# Altium footprint library connectors.PcbLib: 30 footprints (part 2 of 2)
Each footprint in its own frame and in the unit in brackets; x right, y up, seen from the top. Pads: shape width x height; smd on the part's side, far side on the other; paste and mask are expansions set on the pad; w line width, h text height; cw(c..) or ccw(c..) is an arc to the next point about the centre after c.
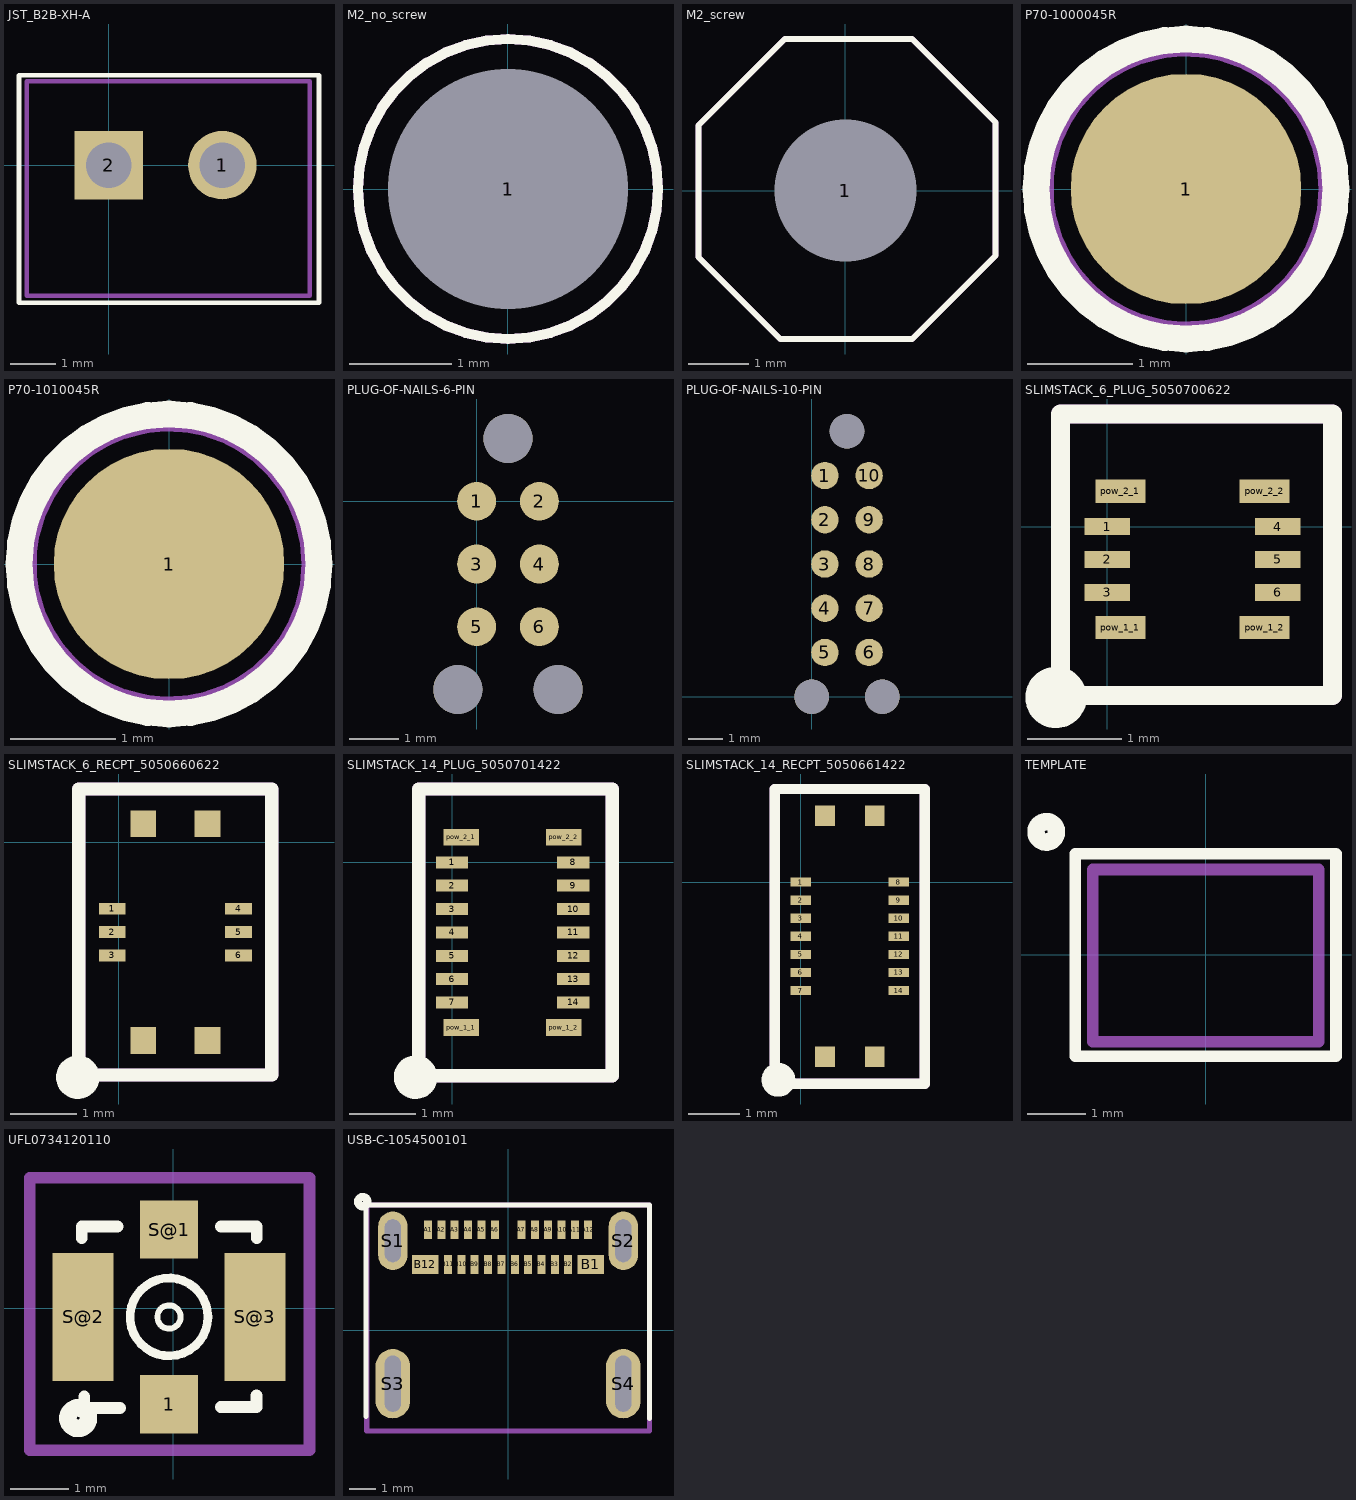
[diagram p1: the footprints below, top view; thin cyan lines are the x and y axes]

## JST_B2B-XH-A [mm] "JST LiPo Connector"
pads (2):
  round 1.508 hole 1: 1(2.5,0)
  rect 1.508x1.508 hole 1: 2(0,0)
Top Overlay:
  lines w0.1: -1.975,-3.025 -1.975,1.975 4.625,1.975 4.625,-3.025 -1.975,-3.025
Top Assembly:
  lines w0.1: -1.8,-2.875 -1.8,1.85 4.425,1.85 4.425,-2.875 -1.8,-2.875
  text ".Designator" at -0.6,-0.3 h0.89
3D body "User Library-PCB HEADER (JST BxB-PH-K-S (VERTICAL)).step": height 6, standoff -1.91, extent -1.7,-2.75 4.3,1.75

## M2_no_screw [mm] "Screw M2"
pads (1):
  round 1.508 hole 2.34: 1(0,0)
Top Overlay:
  circle w0.1: c0,0 r1.463
Top Assembly:
  circle w0.1: c0,0 r1.463
  text ".Designator" at -1.3,-0.225 h0.89

## M2_screw [mm] "Screw M2"
pads (1):
  round 1.508 hole 2.34 mask+1.5: 1(0,0)
Top Overlay:
  lines w0.1: -2.425,-1.1 -1.075,-2.45 1.1,-2.45 2.475,-1.075 2.475,1.125 1.1,2.5 -1,2.5 -2.425,1.075 -2.425,-1.1
Top Assembly:
  lines w0.1: -2.425,-1.1 -1.075,-2.45 1.1,-2.45 2.475,-1.075 2.475,1.125 1.1,2.5 -1,2.5 -2.425,1.075 -2.425,-1.1
  text ".Designator" at -1.325,-0.25 h0.89

## P70-1000045R [mm] "CONTACT SPRING LOADED SMD GOLD"
pads (1):
  round 2.2 smd: 1(0,0)
Top Overlay:
  circle w0.254: c0,0 r1.432
Top Assembly:
  circle w0.254: c0,0 r1.393
  text ".Designator" at -0.9,-0.4 h0.89
3D body "p70-1000045.stp": height 3.5, standoff 0, extent -1,-1 1,1

## P70-1010045R [mm] "CONTACT SPRING LOADED SMD GOLD"
pads (1):
  round 2.2 smd: 1(0,0)
Top Overlay:
  circle w0.254: c0,0 r1.432
Top Assembly:
  circle w0.254: c0,0 r1.393
  text ".Designator" at -0.9,-0.4 h0.89
3D body "p70-1010045.stp": height 5, standoff 0, extent -1,-1 1,1

## PLUG-OF-NAILS-6-PIN [mil]
pads (9):
  round 30.98 smd paste-39.37: 1(0,0) 2(50,0) 3(0,-50) 4(50,-50) 5(0,-100) 6(50,-100)
  round 39.02 hole 39.02 unplated: ""(-15,-150) ""(25,50) ""(65,-150)

## PLUG-OF-NAILS-10-PIN [mm]
pads (13):
  round 0.787 smd paste-1: 1(0.38,6.35) 2(0.38,5.08) 3(0.38,3.81) 4(0.38,2.54) 5(0.38,1.27) 6(1.65,1.27) 7(1.65,2.54) 8(1.65,3.81) 9(1.65,5.08) 10(1.65,6.35)
  round 0.991 hole 0.991 unplated: ""(0,0) ""(1.015,7.62) ""(2.03,0)

## SLIMSTACK_6_PLUG_5050700622 [mm] "CONN PLUG 6 POS SMD GOLD"
pads (10):
  rect 0.485x0.18 smd: 1(0,0) 2(0,-0.35) 3(0,-0.7) 4(1.815,0) 5(1.815,-0.35) 6(1.815,-0.7)
  rect 0.535x0.25 smd: pow_1_1(0.14,-1.075) pow_1_2(1.675,-1.075) pow_2_1(0.14,0.375) pow_2_2(1.675,0.375)
Top Overlay:
  circle w0.3: c-0.546,-1.82 r0.177
  lines w0.2: -0.5,-1.8 -0.5,1.2 2.4,1.2 2.4,-1.8 -0.5,-1.8
Top Assembly:
  lines w0.2: -0.5,-1.8 2.4,-1.8 2.4,1.2 -0.5,1.2 -0.5,-1.8
  text ".Designator" at 1.3,-1.4 h0.89
3D body "5050700622.stp": height 0.46, standoff -0.02, extent -0.1,-1.53 1.9,0.83

## SLIMSTACK_6_RECPT_5050660622 [mm] "CONN RCPT 6POS SMD GOLD"
pads (10):
  rect 0.4x0.18 smd: 1(-0.1,-1) 2(-0.1,-1.35) 3(-0.1,-1.7) 4(1.8,-1) 5(1.8,-1.35) 6(1.8,-1.7)
  rect 0.385x0.4 smd: pow_1_1(0.367,-2.98) pow_1_2(1.332,-2.98) pow_2_1(0.367,0.28) pow_2_2(1.332,0.28)
Top Overlay:
  circle w0.3: c-0.614,-3.532 r0.177
  lines w0.2: -0.6,-3.5 2.3,-3.5 2.3,0.8 -0.6,0.8 -0.6,-3.5
Top Assembly:
  lines w0.2: -0.6,-3.5 -0.6,0.8 2.3,0.8 2.3,-3.5 -0.6,-3.5
  text ".Designator" at 1.317,-2.819 h0.89
3D body "5050660622.stp": height 0.56, standoff -0.02, extent -0.16,-3.095 1.84,0.405

## SLIMSTACK_14_PLUG_5050701422 [mm] "CONN PLUG 14 POS SMD GOLD"
pads (18):
  rect 0.485x0.18 smd: 1(0,0) 2(0,-0.35) 3(0,-0.7) 4(0,-1.05) 5(0,-1.4) 6(0,-1.75) 7(0,-2.1) 8(1.815,0) 9(1.815,-0.35) 10(1.815,-0.7) 11(1.815,-1.05) 12(1.815,-1.4) 13(1.815,-1.75) 14(1.815,-2.1)
  rect 0.535x0.25 smd: pow_1_1(0.14,-2.475) pow_1_2(1.675,-2.475) pow_2_1(0.14,0.375) pow_2_2(1.675,0.375)
Top Overlay:
  circle w0.3: c-0.546,-3.22 r0.177
  lines w0.2: -0.5,-3.2 2.4,-3.2 2.4,1.1 -0.5,1.1 -0.5,-3.2
Top Assembly:
  lines w0.2: -0.5,-3.2 2.4,-3.2 2.4,1.1 -0.5,1.1 -0.5,-3.2
  text ".Designator" at 1.3,-2.1 h0.89
3D body "5050701422.stp": height 0.46, standoff -0.02, extent -0.088,-2.933 1.912,0.827

## SLIMSTACK_14_RECPT_5050661422 [mm] "CONN RCPT 14 POS SMD GOLD"
pads (18):
  rect 0.4x0.18 smd: 1(0,0) 2(0,-0.35) 3(0,-0.7) 4(0,-1.05) 5(0,-1.4) 6(0,-1.75) 7(0,-2.1) 8(1.9,0) 9(1.9,-0.35) 10(1.9,-0.7) 11(1.9,-1.05) 12(1.9,-1.4) 13(1.9,-1.75) 14(1.9,-2.1)
  rect 0.385x0.4 smd: pow_1_1(0.467,-3.38) pow_1_2(1.432,-3.38) pow_2_1(0.467,1.28) pow_2_2(1.432,1.28)
Top Overlay:
  circle w0.3: c-0.432,-3.827 r0.177
  lines w0.2: -0.5,-3.9 -0.5,1.8 2.4,1.8 2.4,-3.9 -0.5,-3.9
Top Assembly:
  lines w0.2: -0.5,-3.9 2.4,-3.9 2.4,1.8 -0.5,1.8 -0.5,-3.9
  text ".Designator" at 1.3,-2.7 h0.89
3D body "5050661422.stp": height 0.56, standoff -0.02, extent -0.035,-3.483 1.965,1.417

## TEMPLATE [mm]
Top Overlay:
  circle w0.3: c-2.75,2.125 r0.177
  lines w0.2: -2.25,-1.75 -2.25,1.75 2.25,1.75 2.25,-1.75 -2.25,-1.75
Top Assembly:
  lines w0.2: -1.95,-1.5 1.95,-1.5 1.95,1.475 -1.95,1.475 -1.95,-1.5
  text ".Designator" at -1.325,-0.45 h0.89

## UFL0734120110 [mm] "CONN UMC RCPT STR 50 OHM SMD"
pads (4):
  rect 1x1 smd: 1(-0.076,-1.652) S@1(-0.076,1.348)
  rect 1.05x2.2 smd: S@2(-1.551,-0.152) S@3(1.399,-0.152)
Top Overlay:
  circle w0.102: c-0.076,-0.152 r0.2
  circle w0.3: c-1.636,-1.89 r0.177
  circle w0.15: c-0.076,-0.152 r0.668
  lines w0.2: -1.575,1.2 -1.575,1.4 ; -1.531,-1.717 -1.531,-1.517 ; 1.425,-1.7 1.425,-1.5 ; 1.431,1.2 1.431,1.4
  lines w0.203: -1.575,1.4 -0.962,1.4 ; -1.531,-1.717 -0.919,-1.717 ; 0.813,-1.7 1.425,-1.7 ; 0.819,1.4 1.431,1.4
Top Assembly:
  lines w0.2: -2.464,-2.438 -2.464,2.235 2.337,2.235 2.337,-2.438 -2.464,-2.438
  text ".Designator" at -1.499,-0.432 h0.89
3D body "734120110.stp": height 1.27, standoff -0.03, extent -1.576,-1.692 1.424,1.388

## USB-C-1054500101 [mm] "USB-C CONN RCP USB3.1 TYPEC 24P SMD RA"
pads (28):
  rect 0.3x0.7 smd: A1(-3,3.77) A2(-2.5,3.77) A3(-2,3.77) A4(-1.5,3.77) A5(-1,3.77) A6(-0.5,3.77) A7(0.5,3.77) A8(1,3.77) A9(1.5,3.77) A10(2,3.77) A11(2.5,3.77) A12(3,3.77) B2(2.25,2.47) B3(1.75,2.47) B4(1.25,2.47) B5(0.75,2.47) B6(0.25,2.47) B7(-0.25,2.47) B8(-0.75,2.47) B9(-1.25,2.47) B10(-1.75,2.47) B11(-2.25,2.47)
  rect 1x0.7 smd: B1(3.1,2.47) B12(-3.1,2.47)
  oval 1.1x2.2 hole 0.6 slot 1.6 at 90 deg: S1(-4.32,3.36) S2(4.32,3.36)
  oval 1.3x2.6 hole 0.6 slot 2.1 at 90 deg: S3(-4.32,-2) S4(4.32,-2)
Top Overlay:
  circle w0.3: c-5.45,4.825 r0.177
  lines w0.2: -5.325,-3.225 -5.325,4.7 5.3,4.7 5.3,-3.3
Top Assembly:
  lines w0.2: -5.3,-3.775 5.3,-3.775 5.3,4.7 -5.3,4.7 -5.3,-3.775
  text ".Designator" at -2.625,0.55 h0.89
3D body "1054500101--3DModel-STEP-56544.STEP": height 3.2, standoff -0.9, extent -4.47,-3.855 4.47,4.045